# Altium footprint library LQH3NRH3R3M29.PcbLib: 1 footprints
Each footprint in its own frame and in the unit in brackets; x right, y up, seen from the top. Pads: shape width x height; smd on the part's side, far side on the other; paste and mask are expansions set on the pad; w line width, h text height; cw(c..) or ccw(c..) is an arc to the next point about the centre after c.
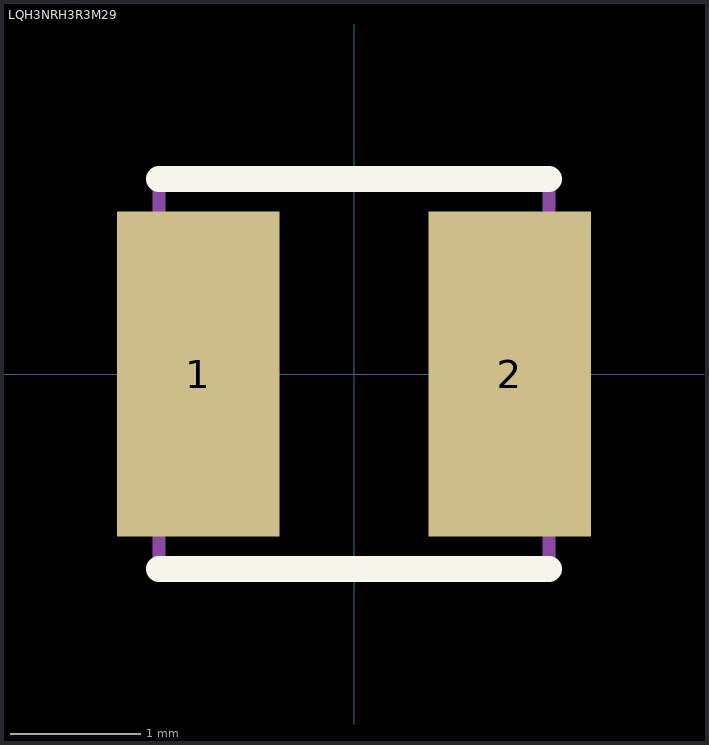
[diagram p0: the footprint, top view; thin cyan lines are the x and y axes]

## LQH3NRH3R3M29 [mm] "SMD, 2-Leads, Body 3x3mm"
height 2.9
pads (2):
  rect 1.25x2.5 smd: 1(-1.2,0) 2(1.2,0)
Top Overlay:
  lines w0.2: -1.5,-1.5 1.5,-1.5 ; -1.5,1.5 1.5,1.5
Mechanical 5:
  lines w0.1: -1.5,-1.5 1.5,-1.5 1.5,1.5 -1.5,1.5 -1.5,-1.5
  text ".Designator" at 0,0 h1.02
3D body: height 2.9, standoff 0, extent -1.5,-1.5 1.5,1.5